# Altium schematic symbol library kmilo17pet-NSC_Switcher.SchLib: 2226 symbols (part 42 of 59)
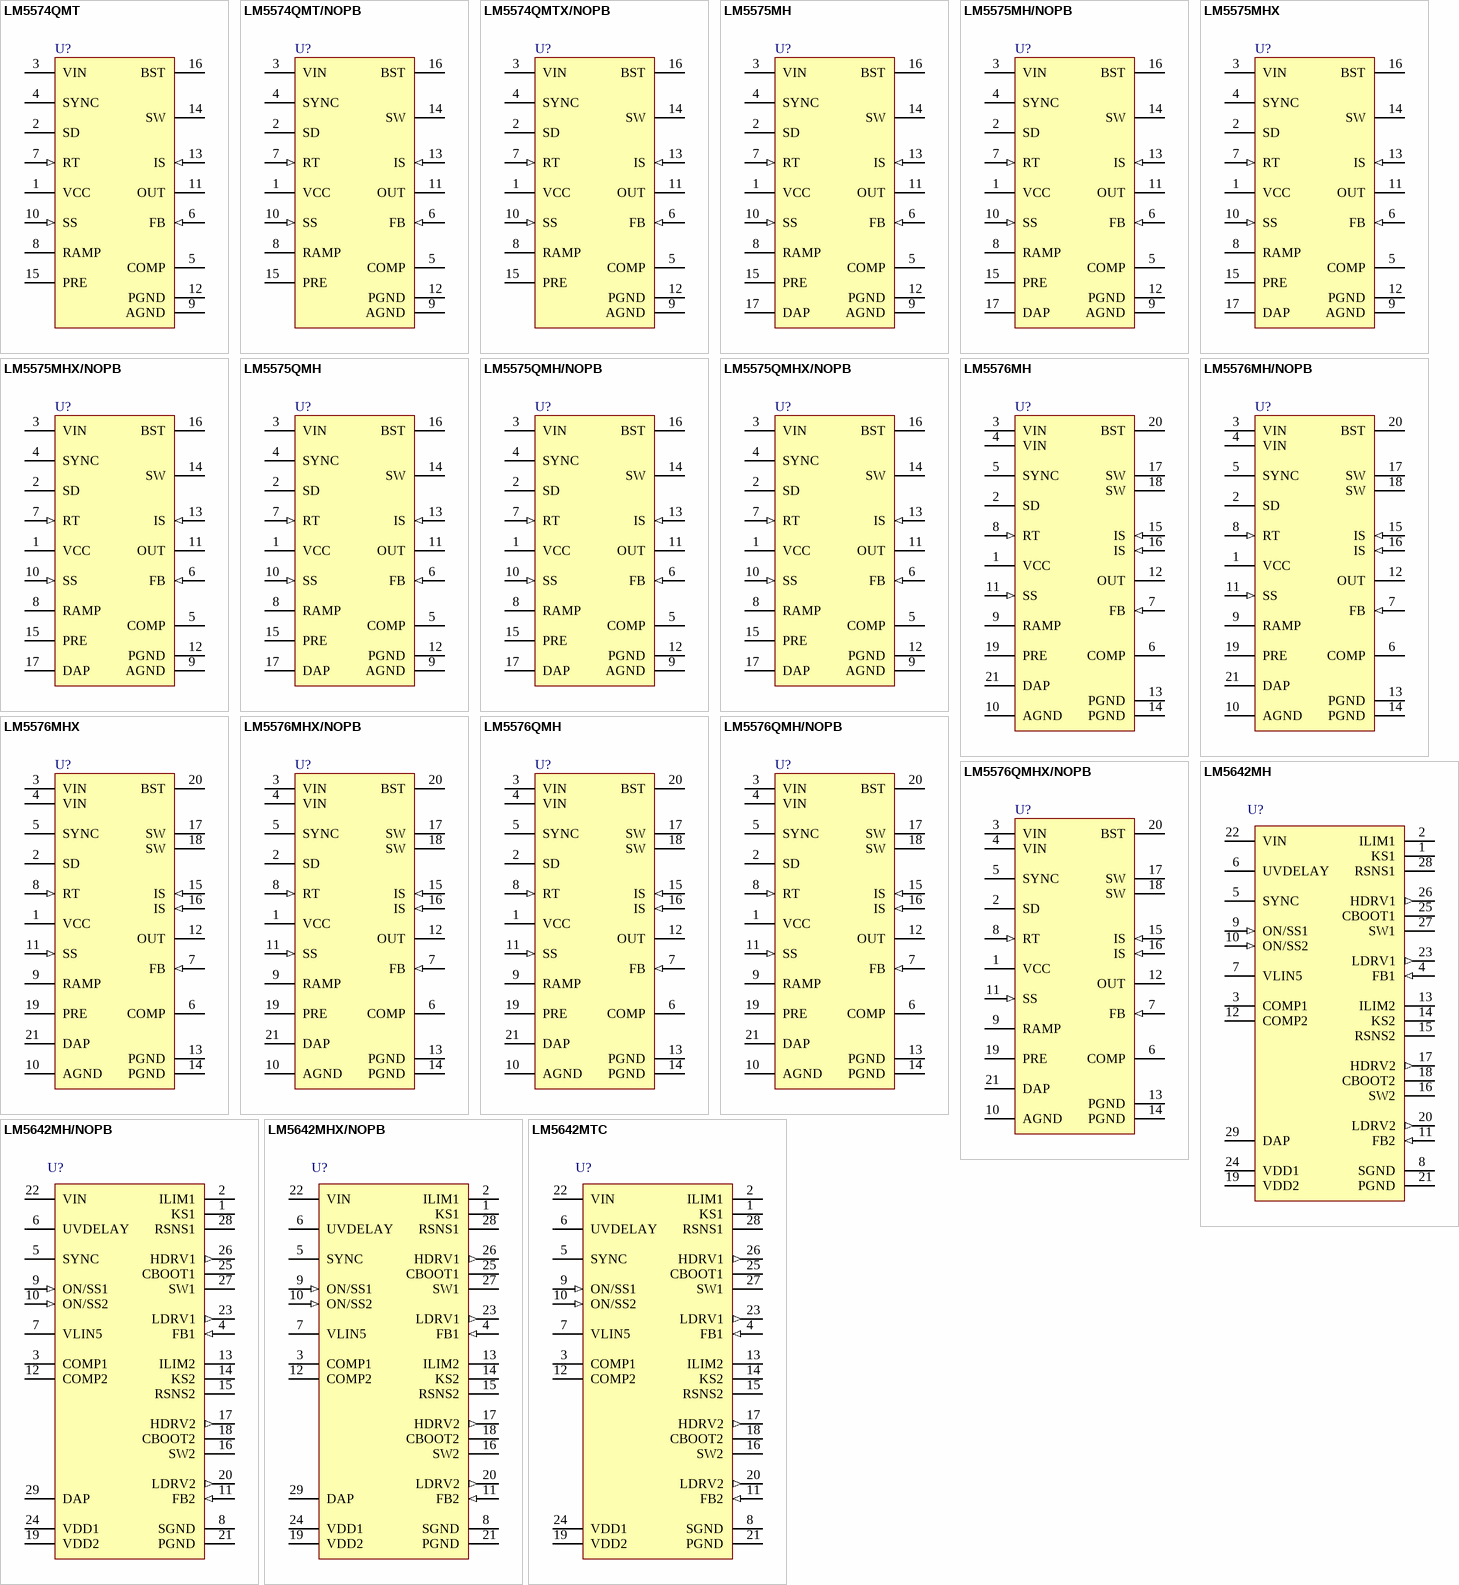
[diagram p110: symbols LM5574QMT to LM5642MTC]

## LM5576MH/NOPB
designator U?
SIMPLE SWITCHER® 75V, 3A Step-Down Switching Regulator, 20-pin TSSOP-EP, Pb-Free; PartNumber: LM5576MH/NOPB; Manufacturer: National Semiconductor; PackageTopMarking: NSUZXYTT*LM5576*MH; PowerWise: Y; DatasheetVersion: Mar-2007; PackageVersion: revC, Jul-2006; PackageReference: MXA20A; PackageDescription: Molded TSSOP, Jedec, 6.5 x 4.4 x 0.9mm Body, 20 Lead, 0.65mm Pitch, Exposed Pad; RoHS: Y; PinCount: 20; CompType: Switcher; High-Reliability: Y; Code_JEDEC: MO-153-ACT; ComponentLink1Description: Manufacturer URL; ComponentLink1URL: http://www.national.com/; ComponentLink2Description: LM5576 Datasheet; ComponentLink2URL: http://www.national.com/ds/LM/LM5576.pdf; ComponentLink3Description: LM5576 Web Page; ComponentLink3URL: http://www.national.com/pf/LM/LM5576.html; ComponentLink4Description: MXA20A Package Page; ComponentLink4URL: http://www.national.com/packaging/folders/mxa20a.html
footprint MXA20A_N (TSOP, 20-Leads, Body 6.5x4.4mm, Pitch 0.65mm, Thermal Pad, IPC Medium Density)
footprint MXA20A_L (TSOP, 20-Leads, Body 6.5x4.4mm, Pitch 0.65mm, Thermal Pad, IPC High Density)
footprint MXA20A_M (TSOP, 20-Leads, Body 6.5x4.4mm, Pitch 0.65mm, Thermal Pad, IPC Low Density)
pins: 1 VCC (power), 2 SD, 3 VIN (power), 4 VIN (power), 5 SYNC, 6 COMP, 7 FB (in), 8 RT (in), 9 RAMP, 10 AGND (power), 11 SS (in), 12 OUT (power), 13 PGND (power), 14 PGND (power), 15 IS (in), 16 IS (in), 17 SW (power), 18 SW (power), 19 PRE (oc), 20 BST, 21 DAP (power)

## LM5576MHX
designator U?
SIMPLE SWITCHER® 75V, 3A Step-Down Switching Regulator, 20-pin TSSOP-EP; PartNumber: LM5576MHX; Manufacturer: National Semiconductor; PackageTopMarking: NSUZXYTT*LM5576*MH; PowerWise: Y; DatasheetVersion: Mar-2007; PackageVersion: revC, Jul-2006; PackageReference: MXA20A; PackageDescription: Molded TSSOP, Jedec, 6.5 x 4.4 x 0.9mm Body, 20 Lead, 0.65mm Pitch, Exposed Pad; RoHS: N; PinCount: 20; CompType: Switcher; High-Reliability: Y; Code_JEDEC: MO-153-ACT; ComponentLink1Description: Manufacturer URL; ComponentLink1URL: http://www.national.com/; ComponentLink2Description: LM5576 Datasheet; ComponentLink2URL: http://www.national.com/ds/LM/LM5576.pdf; ComponentLink3Description: LM5576 Web Page; ComponentLink3URL: http://www.national.com/pf/LM/LM5576.html; ComponentLink4Description: MXA20A Package Page; ComponentLink4URL: http://www.national.com/packaging/folders/mxa20a.html
footprint MXA20A_N (TSOP, 20-Leads, Body 6.5x4.4mm, Pitch 0.65mm, Thermal Pad, IPC Medium Density)
footprint MXA20A_L (TSOP, 20-Leads, Body 6.5x4.4mm, Pitch 0.65mm, Thermal Pad, IPC High Density)
footprint MXA20A_M (TSOP, 20-Leads, Body 6.5x4.4mm, Pitch 0.65mm, Thermal Pad, IPC Low Density)
pins: 1 VCC (power), 2 SD, 3 VIN (power), 4 VIN (power), 5 SYNC, 6 COMP, 7 FB (in), 8 RT (in), 9 RAMP, 10 AGND (power), 11 SS (in), 12 OUT (power), 13 PGND (power), 14 PGND (power), 15 IS (in), 16 IS (in), 17 SW (power), 18 SW (power), 19 PRE (oc), 20 BST, 21 DAP (power)

## LM5576MHX/NOPB
designator U?
SIMPLE SWITCHER® 75V, 3A Step-Down Switching Regulator, 20-pin TSSOP-EP, Pb-Free; PartNumber: LM5576MHX/NOPB; Manufacturer: National Semiconductor; PackageTopMarking: NSUZXYTT*LM5576*MH; PowerWise: Y; DatasheetVersion: Mar-2007; PackageVersion: revC, Jul-2006; PackageReference: MXA20A; PackageDescription: Molded TSSOP, Jedec, 6.5 x 4.4 x 0.9mm Body, 20 Lead, 0.65mm Pitch, Exposed Pad; RoHS: Y; PinCount: 20; CompType: Switcher; High-Reliability: Y; Code_JEDEC: MO-153-ACT; ComponentLink1Description: Manufacturer URL; ComponentLink1URL: http://www.national.com/; ComponentLink2Description: LM5576 Datasheet; ComponentLink2URL: http://www.national.com/ds/LM/LM5576.pdf; ComponentLink3Description: LM5576 Web Page; ComponentLink3URL: http://www.national.com/pf/LM/LM5576.html; ComponentLink4Description: MXA20A Package Page; ComponentLink4URL: http://www.national.com/packaging/folders/mxa20a.html
footprint MXA20A_N (TSOP, 20-Leads, Body 6.5x4.4mm, Pitch 0.65mm, Thermal Pad, IPC Medium Density)
footprint MXA20A_L (TSOP, 20-Leads, Body 6.5x4.4mm, Pitch 0.65mm, Thermal Pad, IPC High Density)
footprint MXA20A_M (TSOP, 20-Leads, Body 6.5x4.4mm, Pitch 0.65mm, Thermal Pad, IPC Low Density)
pins: 1 VCC (power), 2 SD, 3 VIN (power), 4 VIN (power), 5 SYNC, 6 COMP, 7 FB (in), 8 RT (in), 9 RAMP, 10 AGND (power), 11 SS (in), 12 OUT (power), 13 PGND (power), 14 PGND (power), 15 IS (in), 16 IS (in), 17 SW (power), 18 SW (power), 19 PRE (oc), 20 BST, 21 DAP (power)

## LM5576QMH
designator U?
SIMPLE SWITCHER® 75V, 3A Step-Down Switching Regulator, 20-pin TSSOP-EP; PartNumber: LM5576QMH; Manufacturer: National Semiconductor; PackageTopMarking: NSUZXYTT*LM5576*QMH; PowerWise: N; High-Reliability: Y; DatasheetVersion: Mar-2009; PackageVersion: revC, Jul-2006; PackageReference: MXA20A; PackageDescription: Molded TSSOP, Jedec, 6.5 x 4.4 x 0.9mm Body, 20 Lead, 0.65mm Pitch, Exposed Pad; RoHS: Y; PinCount: 20; CompType: Switcher; Code_JEDEC: MO-153-ACT; ComponentLink1Description: Manufacturer URL; ComponentLink1URL: http://www.national.com/; ComponentLink2Description: LM5576 Datasheet; ComponentLink2URL: http://www.national.com/ds/LM/LM5576.pdf; ComponentLink3Description: LM5576 Web Page; ComponentLink3URL: http://www.national.com/pf/LM/LM5576.html; ComponentLink4Description: MXA20A Package Page; ComponentLink4URL: http://www.national.com/packaging/folders/mxa20a.html
footprint MXA20A_N (TSOP, 20-Leads, Body 6.5x4.4mm, Pitch 0.65mm, Thermal Pad, IPC Medium Density)
footprint MXA20A_L (TSOP, 20-Leads, Body 6.5x4.4mm, Pitch 0.65mm, Thermal Pad, IPC High Density)
footprint MXA20A_M (TSOP, 20-Leads, Body 6.5x4.4mm, Pitch 0.65mm, Thermal Pad, IPC Low Density)
pins: 1 VCC (power), 2 SD, 3 VIN (power), 4 VIN (power), 5 SYNC, 6 COMP, 7 FB (in), 8 RT (in), 9 RAMP, 10 AGND (power), 11 SS (in), 12 OUT (power), 13 PGND (power), 14 PGND (power), 15 IS (in), 16 IS (in), 17 SW (power), 18 SW (power), 19 PRE (oc), 20 BST, 21 DAP (power)

## LM5576QMH/NOPB
designator U?
SIMPLE SWITCHER® 75V, 3A Step-Down Switching Regulator, 20-pin TSSOP-EP, Pb-Free; PartNumber: LM5576QMH/NOPB; Manufacturer: National Semiconductor; PackageTopMarking: NSUZXYTT*LM5576*QMH; PowerWise: N; High-Reliability: Y; DatasheetVersion: Mar-2009; PackageVersion: revC, Jul-2006; PackageReference: MXA20A; PackageDescription: Molded TSSOP, Jedec, 6.5 x 4.4 x 0.9mm Body, 20 Lead, 0.65mm Pitch, Exposed Pad; RoHS: Y; PinCount: 20; CompType: Switcher; Code_JEDEC: MO-153-ACT; ComponentLink1Description: Manufacturer URL; ComponentLink1URL: http://www.national.com/; ComponentLink2Description: LM5576 Datasheet; ComponentLink2URL: http://www.national.com/ds/LM/LM5576.pdf; ComponentLink3Description: LM5576 Web Page; ComponentLink3URL: http://www.national.com/pf/LM/LM5576.html; ComponentLink4Description: MXA20A Package Page; ComponentLink4URL: http://www.national.com/packaging/folders/mxa20a.html
footprint MXA20A_N (TSOP, 20-Leads, Body 6.5x4.4mm, Pitch 0.65mm, Thermal Pad, IPC Medium Density)
footprint MXA20A_L (TSOP, 20-Leads, Body 6.5x4.4mm, Pitch 0.65mm, Thermal Pad, IPC High Density)
footprint MXA20A_M (TSOP, 20-Leads, Body 6.5x4.4mm, Pitch 0.65mm, Thermal Pad, IPC Low Density)
pins: 1 VCC (power), 2 SD, 3 VIN (power), 4 VIN (power), 5 SYNC, 6 COMP, 7 FB (in), 8 RT (in), 9 RAMP, 10 AGND (power), 11 SS (in), 12 OUT (power), 13 PGND (power), 14 PGND (power), 15 IS (in), 16 IS (in), 17 SW (power), 18 SW (power), 19 PRE (oc), 20 BST, 21 DAP (power)

## LM5576QMHX/NOPB
designator U?
SIMPLE SWITCHER® 75V, 3A Step-Down Switching Regulator, 20-pin TSSOP-EP, Pb-Free; PartNumber: LM5576QMHX/NOPB; Manufacturer: National Semiconductor; PackageTopMarking: NSUZXYTT*LM5576*QMH; PowerWise: N; High-Reliability: Y; DatasheetVersion: Mar-2009; PackageVersion: revC, Jul-2006; PackageReference: MXA20A; PackageDescription: Molded TSSOP, Jedec, 6.5 x 4.4 x 0.9mm Body, 20 Lead, 0.65mm Pitch, Exposed Pad; RoHS: Y; PinCount: 20; CompType: Switcher; Code_JEDEC: MO-153-ACT; ComponentLink1Description: Manufacturer URL; ComponentLink1URL: http://www.national.com/; ComponentLink2Description: LM5576 Datasheet; ComponentLink2URL: http://www.national.com/ds/LM/LM5576.pdf; ComponentLink3Description: LM5576 Web Page; ComponentLink3URL: http://www.national.com/pf/LM/LM5576.html; ComponentLink4Description: MXA20A Package Page; ComponentLink4URL: http://www.national.com/packaging/folders/mxa20a.html
footprint MXA20A_N (TSOP, 20-Leads, Body 6.5x4.4mm, Pitch 0.65mm, Thermal Pad, IPC Medium Density)
footprint MXA20A_L (TSOP, 20-Leads, Body 6.5x4.4mm, Pitch 0.65mm, Thermal Pad, IPC High Density)
footprint MXA20A_M (TSOP, 20-Leads, Body 6.5x4.4mm, Pitch 0.65mm, Thermal Pad, IPC Low Density)
pins: 1 VCC (power), 2 SD, 3 VIN (power), 4 VIN (power), 5 SYNC, 6 COMP, 7 FB (in), 8 RT (in), 9 RAMP, 10 AGND (power), 11 SS (in), 12 OUT (power), 13 PGND (power), 14 PGND (power), 15 IS (in), 16 IS (in), 17 SW (power), 18 SW (power), 19 PRE (oc), 20 BST, 21 DAP (power)

## LM5642MH
designator U?
High Voltage, Dual Synchronous Buck Converter with Oscillator Synchronization, 28-pin TSSOP-EP; PartNumber: LM5642MH; Manufacturer: National Semiconductor; PackageTopMarking: NSUZXYTT*LM5642*MH; PowerWise: N; CompType: Switcher; High-Reliability: Y; DatasheetVersion: Jun-2007; PackageVersion: revD, Oct-2003; PackageReference: MXA28A; PackageDescription: Molded TSSOP, Jedec, 9.7 x 4.4 x 0.9mm Body, 28 Lead, 0.65mm Pitch, Exposed Pad; RoHS: Y; PinCount: 28; Code_JEDEC: MO-153-AET; ComponentLink1Description: Manufacturer URL; ComponentLink1URL: http://www.national.com/; ComponentLink2Description: LM5642 Datasheet; ComponentLink2URL: http://www.national.com/ds/LM/LM5642.pdf; ComponentLink3Description: LM5642 Web Page; ComponentLink3URL: http://www.national.com/pf/LM/LM5642.html; ComponentLink4Description: MXA28A Package Page; ComponentLink4URL: http://www.national.com/packaging/folders/mxa28a.html
footprint MXA28A_N (TSOP, 28-Leads, Body 9.7x4.4mm, Pitch 0.65mm, Thermal Pad, IPC Medium Density)
footprint MXA28A_L (TSOP, 28-Leads, Body 9.7x4.4mm, Pitch 0.65mm, Thermal Pad, IPC High Density)
footprint MXA28A_M (TSOP, 28-Leads, Body 9.7x4.4mm, Pitch 0.65mm, Thermal Pad, IPC Low Density)
pins: 1 KS1, 2 ILIM1, 3 COMP1, 4 FB1 (in), 5 SYNC, 6 UVDELAY, 7 VLIN5 (power), 8 SGND (power), 9 ON/SS1 (in), 10 ON/SS2 (in), 11 FB2 (in), 12 COMP2, 13 ILIM2, 14 KS2, 15 RSNS2, 16 SW2 (power), 17 HDRV2 (out), 18 CBOOT2, 19 VDD2 (power), 20 LDRV2 (out), 21 PGND (power), 22 VIN (power), 23 LDRV1 (out), 24 VDD1 (power), 25 CBOOT1, 26 HDRV1 (out), 27 SW1 (power), 28 RSNS1, 29 DAP (power)

## LM5642MH/NOPB
designator U?
High Voltage, Dual Synchronous Buck Converter with Oscillator Synchronization, 28-pin TSSOP-EP, Pb-Free; PartNumber: LM5642MH/NOPB; Manufacturer: National Semiconductor; PackageTopMarking: NSUZXYTTE#*LM5642*MH; PowerWise: N; CompType: Switcher; High-Reliability: Y; DatasheetVersion: Jun-2007; PackageVersion: revD, Oct-2003; PackageReference: MXA28A; PackageDescription: Molded TSSOP, Jedec, 9.7 x 4.4 x 0.9mm Body, 28 Lead, 0.65mm Pitch, Exposed Pad; RoHS: Y; PinCount: 28; Code_JEDEC: MO-153-AET; ComponentLink1Description: Manufacturer URL; ComponentLink1URL: http://www.national.com/; ComponentLink2Description: LM5642 Datasheet; ComponentLink2URL: http://www.national.com/ds/LM/LM5642.pdf; ComponentLink3Description: LM5642 Web Page; ComponentLink3URL: http://www.national.com/pf/LM/LM5642.html; ComponentLink4Description: MXA28A Package Page; ComponentLink4URL: http://www.national.com/packaging/folders/mxa28a.html
footprint MXA28A_N (TSOP, 28-Leads, Body 9.7x4.4mm, Pitch 0.65mm, Thermal Pad, IPC Medium Density)
footprint MXA28A_L (TSOP, 28-Leads, Body 9.7x4.4mm, Pitch 0.65mm, Thermal Pad, IPC High Density)
footprint MXA28A_M (TSOP, 28-Leads, Body 9.7x4.4mm, Pitch 0.65mm, Thermal Pad, IPC Low Density)
pins: 1 KS1, 2 ILIM1, 3 COMP1, 4 FB1 (in), 5 SYNC, 6 UVDELAY, 7 VLIN5 (power), 8 SGND (power), 9 ON/SS1 (in), 10 ON/SS2 (in), 11 FB2 (in), 12 COMP2, 13 ILIM2, 14 KS2, 15 RSNS2, 16 SW2 (power), 17 HDRV2 (out), 18 CBOOT2, 19 VDD2 (power), 20 LDRV2 (out), 21 PGND (power), 22 VIN (power), 23 LDRV1 (out), 24 VDD1 (power), 25 CBOOT1, 26 HDRV1 (out), 27 SW1 (power), 28 RSNS1, 29 DAP (power)

## LM5642MHX/NOPB
designator U?
High Voltage, Dual Synchronous Buck Converter with Oscillator Synchronization, 28-pin TSSOP-EP, Pb-Free; PartNumber: LM5642MHX/NOPB; Manufacturer: National Semiconductor; PackageTopMarking: NSUZXYTTE#*LM5642*MH; PowerWise: N; CompType: Switcher; High-Reliability: Y; DatasheetVersion: Jun-2007; PackageVersion: revD, Oct-2003; PackageReference: MXA28A; PackageDescription: Molded TSSOP, Jedec, 9.7 x 4.4 x 0.9mm Body, 28 Lead, 0.65mm Pitch, Exposed Pad; RoHS: Y; PinCount: 28; Code_JEDEC: MO-153-AET; ComponentLink1Description: Manufacturer URL; ComponentLink1URL: http://www.national.com/; ComponentLink2Description: LM5642 Datasheet; ComponentLink2URL: http://www.national.com/ds/LM/LM5642.pdf; ComponentLink3Description: LM5642 Web Page; ComponentLink3URL: http://www.national.com/pf/LM/LM5642.html; ComponentLink4Description: MXA28A Package Page; ComponentLink4URL: http://www.national.com/packaging/folders/mxa28a.html
footprint MXA28A_N (TSOP, 28-Leads, Body 9.7x4.4mm, Pitch 0.65mm, Thermal Pad, IPC Medium Density)
footprint MXA28A_L (TSOP, 28-Leads, Body 9.7x4.4mm, Pitch 0.65mm, Thermal Pad, IPC High Density)
footprint MXA28A_M (TSOP, 28-Leads, Body 9.7x4.4mm, Pitch 0.65mm, Thermal Pad, IPC Low Density)
pins: 1 KS1, 2 ILIM1, 3 COMP1, 4 FB1 (in), 5 SYNC, 6 UVDELAY, 7 VLIN5 (power), 8 SGND (power), 9 ON/SS1 (in), 10 ON/SS2 (in), 11 FB2 (in), 12 COMP2, 13 ILIM2, 14 KS2, 15 RSNS2, 16 SW2 (power), 17 HDRV2 (out), 18 CBOOT2, 19 VDD2 (power), 20 LDRV2 (out), 21 PGND (power), 22 VIN (power), 23 LDRV1 (out), 24 VDD1 (power), 25 CBOOT1, 26 HDRV1 (out), 27 SW1 (power), 28 RSNS1, 29 DAP (power)

## LM5642MTC
designator U?
High Voltage, Dual Synchronous Buck Converter with Oscillator Synchronization, 28-pin TSSOP; PartNumber: LM5642MTC; Manufacturer: National Semiconductor; PackageTopMarking: NSUZXYTTE#*LM5642*MTC; PowerWise: Y; CompType: Switcher; DatasheetVersion: Jun-2007; PackageVersion: revD, Jan-2005; PackageReference: MTC28; PackageDescription: Molded TSSOP, Jedec, 9.7 x 4.4 x 0.9mm Body, 28 Lead, 0.65mm Pitch; RoHS: N; PinCount: 28; High-Reliability: Y; Code_JEDEC: MO-153-AE; ComponentLink1Description: Manufacturer URL; ComponentLink1URL: http://www.national.com/; ComponentLink2Description: LM5642 Datasheet; ComponentLink2URL: http://www.national.com/ds/LM/LM5642.pdf; ComponentLink3Description: LM5642 Web Page; ComponentLink3URL: http://www.national.com/pf/LM/LM5642.html; ComponentLink4Description: MTC28 Package Page; ComponentLink4URL: http://www.national.com/packaging/folders/mtc28.html
footprint MTC28_N (TSOP, 28-Leads, Body 9.7x4.4mm, Pitch 0.65mm, IPC Medium Density)
footprint MTC28_L (TSOP, 28-Leads, Body 9.7x4.4mm, Pitch 0.65mm, IPC High Density)
footprint MTC28_M (TSOP, 28-Leads, Body 9.7x4.4mm, Pitch 0.65mm, IPC Low Density)
pins: 1 KS1, 2 ILIM1, 3 COMP1, 4 FB1 (in), 5 SYNC, 6 UVDELAY, 7 VLIN5 (power), 8 SGND (power), 9 ON/SS1 (in), 10 ON/SS2 (in), 11 FB2 (in), 12 COMP2, 13 ILIM2, 14 KS2, 15 RSNS2, 16 SW2 (power), 17 HDRV2 (out), 18 CBOOT2, 19 VDD2 (power), 20 LDRV2 (out), 21 PGND (power), 22 VIN (power), 23 LDRV1 (out), 24 VDD1 (power), 25 CBOOT1, 26 HDRV1 (out), 27 SW1 (power), 28 RSNS1

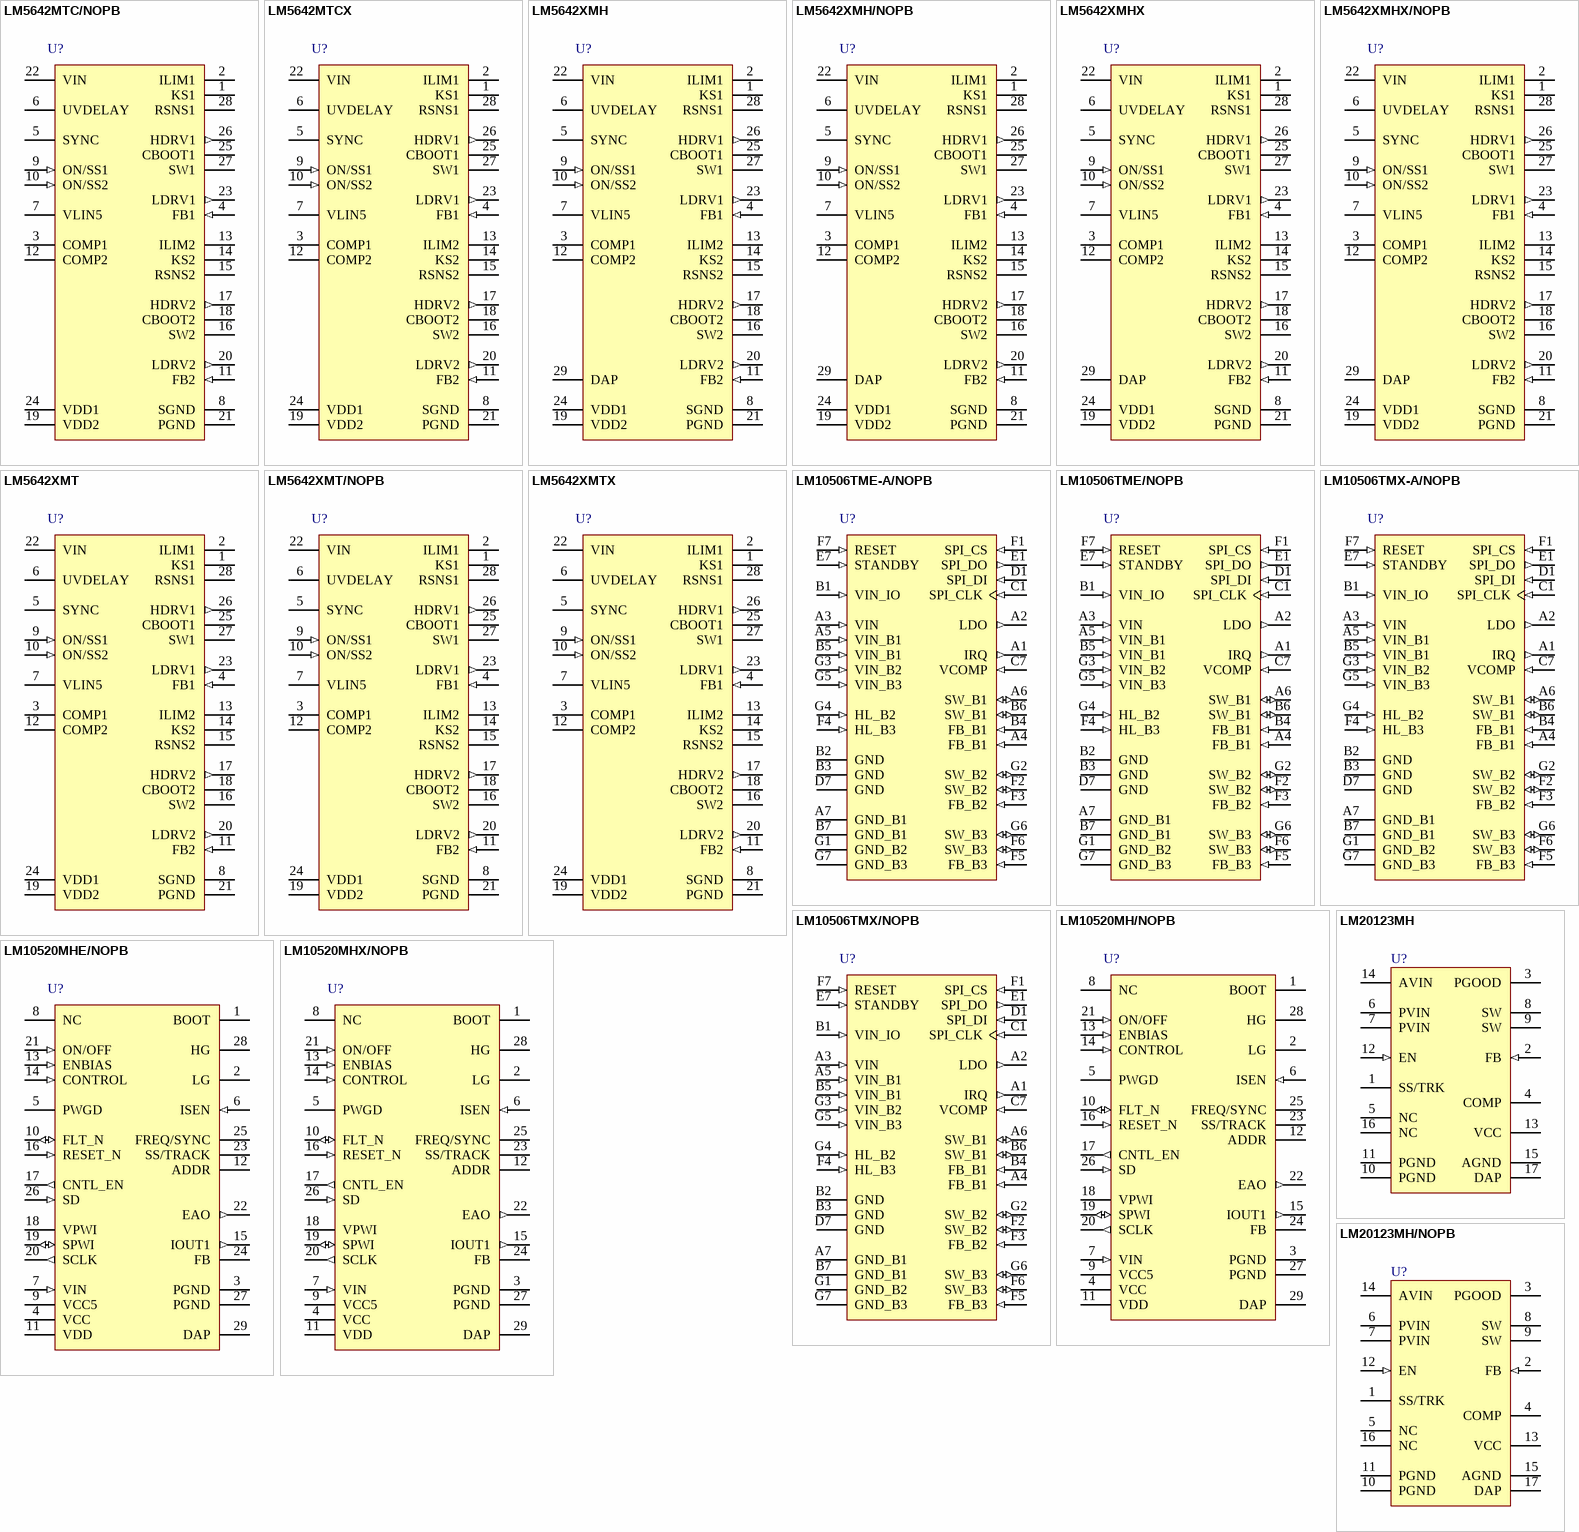
[diagram p47: symbols LM5642MTC/NOPB to LM20123MH/NOPB]

## LM5642MTC/NOPB
designator U?
High Voltage, Dual Synchronous Buck Converter with Oscillator Synchronization, 28-pin TSSOP, Pb-Free; PartNumber: LM5642MTC/NOPB; Manufacturer: National Semiconductor; PackageTopMarking: NSUZXYTTE#*LM5642*MTC; PowerWise: Y; CompType: Switcher; DatasheetVersion: Jun-2007; PackageVersion: revD, Jan-2005; PackageReference: MTC28; PackageDescription: Molded TSSOP, Jedec, 9.7 x 4.4 x 0.9mm Body, 28 Lead, 0.65mm Pitch; RoHS: Y; PinCount: 28; High-Reliability: Y; Code_JEDEC: MO-153-AE; ComponentLink1Description: Manufacturer URL; ComponentLink1URL: http://www.national.com/; ComponentLink2Description: LM5642 Datasheet; ComponentLink2URL: http://www.national.com/ds/LM/LM5642.pdf; ComponentLink3Description: LM5642 Web Page; ComponentLink3URL: http://www.national.com/pf/LM/LM5642.html; ComponentLink4Description: MTC28 Package Page; ComponentLink4URL: http://www.national.com/packaging/folders/mtc28.html
footprint MTC28_N (TSOP, 28-Leads, Body 9.7x4.4mm, Pitch 0.65mm, IPC Medium Density)
footprint MTC28_L (TSOP, 28-Leads, Body 9.7x4.4mm, Pitch 0.65mm, IPC High Density)
footprint MTC28_M (TSOP, 28-Leads, Body 9.7x4.4mm, Pitch 0.65mm, IPC Low Density)
pins: 1 KS1, 2 ILIM1, 3 COMP1, 4 FB1 (in), 5 SYNC, 6 UVDELAY, 7 VLIN5 (power), 8 SGND (power), 9 ON/SS1 (in), 10 ON/SS2 (in), 11 FB2 (in), 12 COMP2, 13 ILIM2, 14 KS2, 15 RSNS2, 16 SW2 (power), 17 HDRV2 (out), 18 CBOOT2, 19 VDD2 (power), 20 LDRV2 (out), 21 PGND (power), 22 VIN (power), 23 LDRV1 (out), 24 VDD1 (power), 25 CBOOT1, 26 HDRV1 (out), 27 SW1 (power), 28 RSNS1

## LM5642MTCX
designator U?
High Voltage, Dual Synchronous Buck Converter with Oscillator Synchronization, 28-pin TSSOP; PartNumber: LM5642MTCX; Manufacturer: National Semiconductor; PackageTopMarking: NSUZXYTTE#*LM5642*MTC; PowerWise: Y; CompType: Switcher; DatasheetVersion: Jun-2007; PackageVersion: revD, Jan-2005; PackageReference: MTC28; PackageDescription: Molded TSSOP, Jedec, 9.7 x 4.4 x 0.9mm Body, 28 Lead, 0.65mm Pitch; RoHS: N; PinCount: 28; High-Reliability: Y; Code_JEDEC: MO-153-AE; ComponentLink1Description: Manufacturer URL; ComponentLink1URL: http://www.national.com/; ComponentLink2Description: LM5642 Datasheet; ComponentLink2URL: http://www.national.com/ds/LM/LM5642.pdf; ComponentLink3Description: LM5642 Web Page; ComponentLink3URL: http://www.national.com/pf/LM/LM5642.html; ComponentLink4Description: MTC28 Package Page; ComponentLink4URL: http://www.national.com/packaging/folders/mtc28.html
footprint MTC28_N (TSOP, 28-Leads, Body 9.7x4.4mm, Pitch 0.65mm, IPC Medium Density)
footprint MTC28_L (TSOP, 28-Leads, Body 9.7x4.4mm, Pitch 0.65mm, IPC High Density)
footprint MTC28_M (TSOP, 28-Leads, Body 9.7x4.4mm, Pitch 0.65mm, IPC Low Density)
pins: 1 KS1, 2 ILIM1, 3 COMP1, 4 FB1 (in), 5 SYNC, 6 UVDELAY, 7 VLIN5 (power), 8 SGND (power), 9 ON/SS1 (in), 10 ON/SS2 (in), 11 FB2 (in), 12 COMP2, 13 ILIM2, 14 KS2, 15 RSNS2, 16 SW2 (power), 17 HDRV2 (out), 18 CBOOT2, 19 VDD2 (power), 20 LDRV2 (out), 21 PGND (power), 22 VIN (power), 23 LDRV1 (out), 24 VDD1 (power), 25 CBOOT1, 26 HDRV1 (out), 27 SW1 (power), 28 RSNS1

## LM5642XMH
designator U?
High Voltage, Dual Synchronous Buck Converter with Oscillator Synchronization, 28-pin TSSOP-EP; PartNumber: LM5642XMH; Manufacturer: National Semiconductor; PackageTopMarking: NSUZXYTTE#*LM5642*XMH; PowerWise: Y; CompType: Switcher; DatasheetVersion: Jun-2007; PackageVersion: revD, Oct-2003; PackageReference: MXA28A; PackageDescription: Molded TSSOP, Jedec, 9.7 x 4.4 x 0.9mm Body, 28 Lead, 0.65mm Pitch, Exposed Pad; RoHS: N; PinCount: 28; High-Reliability: Y; Code_JEDEC: MO-153-AET; ComponentLink1Description: Manufacturer URL; ComponentLink1URL: http://www.national.com/; ComponentLink2Description: LM5642X Datasheet; ComponentLink2URL: http://www.national.com/ds/LM/LM5642X.pdf; ComponentLink3Description: LM5642X Web Page; ComponentLink3URL: http://www.national.com/pf/LM/LM5642X.html; ComponentLink4Description: MXA28A Package Page; ComponentLink4URL: http://www.national.com/packaging/folders/mxa28a.html
footprint MXA28A_N (TSOP, 28-Leads, Body 9.7x4.4mm, Pitch 0.65mm, Thermal Pad, IPC Medium Density)
footprint MXA28A_L (TSOP, 28-Leads, Body 9.7x4.4mm, Pitch 0.65mm, Thermal Pad, IPC High Density)
footprint MXA28A_M (TSOP, 28-Leads, Body 9.7x4.4mm, Pitch 0.65mm, Thermal Pad, IPC Low Density)
pins: 1 KS1, 2 ILIM1, 3 COMP1, 4 FB1 (in), 5 SYNC, 6 UVDELAY, 7 VLIN5 (power), 8 SGND (power), 9 ON/SS1 (in), 10 ON/SS2 (in), 11 FB2 (in), 12 COMP2, 13 ILIM2, 14 KS2, 15 RSNS2, 16 SW2 (power), 17 HDRV2 (out), 18 CBOOT2, 19 VDD2 (power), 20 LDRV2 (out), 21 PGND (power), 22 VIN (power), 23 LDRV1 (out), 24 VDD1 (power), 25 CBOOT1, 26 HDRV1 (out), 27 SW1 (power), 28 RSNS1, 29 DAP (power)

## LM5642XMH/NOPB
designator U?
High Voltage, Dual Synchronous Buck Converter with Oscillator Synchronization, 28-pin TSSOP-EP, Pb-Free; PartNumber: LM5642XMH/NOPB; Manufacturer: National Semiconductor; PackageTopMarking: NSUZXYTTE#*LM5642*XMH; PowerWise: Y; CompType: Switcher; DatasheetVersion: Jun-2007; PackageVersion: revD, Oct-2003; PackageReference: MXA28A; PackageDescription: Molded TSSOP, Jedec, 9.7 x 4.4 x 0.9mm Body, 28 Lead, 0.65mm Pitch, Exposed Pad; RoHS: Y; PinCount: 28; High-Reliability: Y; Code_JEDEC: MO-153-AET; ComponentLink1Description: Manufacturer URL; ComponentLink1URL: http://www.national.com/; ComponentLink2Description: LM5642X Datasheet; ComponentLink2URL: http://www.national.com/ds/LM/LM5642X.pdf; ComponentLink3Description: LM5642X Web Page; ComponentLink3URL: http://www.national.com/pf/LM/LM5642X.html; ComponentLink4Description: MXA28A Package Page; ComponentLink4URL: http://www.national.com/packaging/folders/mxa28a.html
footprint MXA28A_N (TSOP, 28-Leads, Body 9.7x4.4mm, Pitch 0.65mm, Thermal Pad, IPC Medium Density)
footprint MXA28A_L (TSOP, 28-Leads, Body 9.7x4.4mm, Pitch 0.65mm, Thermal Pad, IPC High Density)
footprint MXA28A_M (TSOP, 28-Leads, Body 9.7x4.4mm, Pitch 0.65mm, Thermal Pad, IPC Low Density)
pins: 1 KS1, 2 ILIM1, 3 COMP1, 4 FB1 (in), 5 SYNC, 6 UVDELAY, 7 VLIN5 (power), 8 SGND (power), 9 ON/SS1 (in), 10 ON/SS2 (in), 11 FB2 (in), 12 COMP2, 13 ILIM2, 14 KS2, 15 RSNS2, 16 SW2 (power), 17 HDRV2 (out), 18 CBOOT2, 19 VDD2 (power), 20 LDRV2 (out), 21 PGND (power), 22 VIN (power), 23 LDRV1 (out), 24 VDD1 (power), 25 CBOOT1, 26 HDRV1 (out), 27 SW1 (power), 28 RSNS1, 29 DAP (power)

## LM5642XMHX
designator U?
High Voltage, Dual Synchronous Buck Converter with Oscillator Synchronization, 28-pin TSSOP-EP; PartNumber: LM5642XMHX; Manufacturer: National Semiconductor; PackageTopMarking: NSUZXYTTE#*LM5642*XMH; PowerWise: Y; CompType: Switcher; DatasheetVersion: Jun-2007; PackageVersion: revD, Oct-2003; PackageReference: MXA28A; PackageDescription: Molded TSSOP, Jedec, 9.7 x 4.4 x 0.9mm Body, 28 Lead, 0.65mm Pitch, Exposed Pad; RoHS: N; PinCount: 28; High-Reliability: Y; Code_JEDEC: MO-153-AET; ComponentLink1Description: Manufacturer URL; ComponentLink1URL: http://www.national.com/; ComponentLink2Description: LM5642X Datasheet; ComponentLink2URL: http://www.national.com/ds/LM/LM5642X.pdf; ComponentLink3Description: LM5642X Web Page; ComponentLink3URL: http://www.national.com/pf/LM/LM5642X.html; ComponentLink4Description: MXA28A Package Page; ComponentLink4URL: http://www.national.com/packaging/folders/mxa28a.html
footprint MXA28A_N (TSOP, 28-Leads, Body 9.7x4.4mm, Pitch 0.65mm, Thermal Pad, IPC Medium Density)
footprint MXA28A_L (TSOP, 28-Leads, Body 9.7x4.4mm, Pitch 0.65mm, Thermal Pad, IPC High Density)
footprint MXA28A_M (TSOP, 28-Leads, Body 9.7x4.4mm, Pitch 0.65mm, Thermal Pad, IPC Low Density)
pins: 1 KS1, 2 ILIM1, 3 COMP1, 4 FB1 (in), 5 SYNC, 6 UVDELAY, 7 VLIN5 (power), 8 SGND (power), 9 ON/SS1 (in), 10 ON/SS2 (in), 11 FB2 (in), 12 COMP2, 13 ILIM2, 14 KS2, 15 RSNS2, 16 SW2 (power), 17 HDRV2 (out), 18 CBOOT2, 19 VDD2 (power), 20 LDRV2 (out), 21 PGND (power), 22 VIN (power), 23 LDRV1 (out), 24 VDD1 (power), 25 CBOOT1, 26 HDRV1 (out), 27 SW1 (power), 28 RSNS1, 29 DAP (power)

## LM5642XMHX/NOPB
designator U?
High Voltage, Dual Synchronous Buck Converter with Oscillator Synchronization, 28-pin TSSOP-EP, Pb-Free; PartNumber: LM5642XMHX/NOPB; Manufacturer: National Semiconductor; PackageTopMarking: NSUZXYTTE#*LM5642*XMH; PowerWise: Y; CompType: Switcher; DatasheetVersion: Jun-2007; PackageVersion: revD, Oct-2003; PackageReference: MXA28A; PackageDescription: Molded TSSOP, Jedec, 9.7 x 4.4 x 0.9mm Body, 28 Lead, 0.65mm Pitch, Exposed Pad; RoHS: Y; PinCount: 28; High-Reliability: Y; Code_JEDEC: MO-153-AET; ComponentLink1Description: Manufacturer URL; ComponentLink1URL: http://www.national.com/; ComponentLink2Description: LM5642X Datasheet; ComponentLink2URL: http://www.national.com/ds/LM/LM5642X.pdf; ComponentLink3Description: LM5642X Web Page; ComponentLink3URL: http://www.national.com/pf/LM/LM5642X.html; ComponentLink4Description: MXA28A Package Page; ComponentLink4URL: http://www.national.com/packaging/folders/mxa28a.html
footprint MXA28A_N (TSOP, 28-Leads, Body 9.7x4.4mm, Pitch 0.65mm, Thermal Pad, IPC Medium Density)
footprint MXA28A_L (TSOP, 28-Leads, Body 9.7x4.4mm, Pitch 0.65mm, Thermal Pad, IPC High Density)
footprint MXA28A_M (TSOP, 28-Leads, Body 9.7x4.4mm, Pitch 0.65mm, Thermal Pad, IPC Low Density)
pins: 1 KS1, 2 ILIM1, 3 COMP1, 4 FB1 (in), 5 SYNC, 6 UVDELAY, 7 VLIN5 (power), 8 SGND (power), 9 ON/SS1 (in), 10 ON/SS2 (in), 11 FB2 (in), 12 COMP2, 13 ILIM2, 14 KS2, 15 RSNS2, 16 SW2 (power), 17 HDRV2 (out), 18 CBOOT2, 19 VDD2 (power), 20 LDRV2 (out), 21 PGND (power), 22 VIN (power), 23 LDRV1 (out), 24 VDD1 (power), 25 CBOOT1, 26 HDRV1 (out), 27 SW1 (power), 28 RSNS1, 29 DAP (power)

## LM5642XMT
designator U?
High Voltage, Dual Synchronous Buck Converter with Oscillator Synchronization, 28-pin TSSOP; PartNumber: LM5642XMT; Manufacturer: National Semiconductor; PackageTopMarking: NSUZXYTTE#*LM5642*XMT; PowerWise: Y; CompType: Switcher; DatasheetVersion: Jun-2007; PackageVersion: revD, Jan-2005; PackageReference: MTC28; PackageDescription: Molded TSSOP, Jedec, 9.7 x 4.4 x 0.9mm Body, 28 Lead, 0.65mm Pitch; RoHS: N; PinCount: 28; High-Reliability: Y; Code_JEDEC: MO-153-AE; ComponentLink1Description: Manufacturer URL; ComponentLink1URL: http://www.national.com/; ComponentLink2Description: LM5642X Datasheet; ComponentLink2URL: http://www.national.com/ds/LM/LM5642X.pdf; ComponentLink3Description: LM5642X Web Page; ComponentLink3URL: http://www.national.com/pf/LM/LM5642X.html; ComponentLink4Description: MTC28 Package Page; ComponentLink4URL: http://www.national.com/packaging/folders/mtc28.html
footprint MTC28_N (TSOP, 28-Leads, Body 9.7x4.4mm, Pitch 0.65mm, IPC Medium Density)
footprint MTC28_L (TSOP, 28-Leads, Body 9.7x4.4mm, Pitch 0.65mm, IPC High Density)
footprint MTC28_M (TSOP, 28-Leads, Body 9.7x4.4mm, Pitch 0.65mm, IPC Low Density)
pins: 1 KS1, 2 ILIM1, 3 COMP1, 4 FB1 (in), 5 SYNC, 6 UVDELAY, 7 VLIN5 (power), 8 SGND (power), 9 ON/SS1 (in), 10 ON/SS2 (in), 11 FB2 (in), 12 COMP2, 13 ILIM2, 14 KS2, 15 RSNS2, 16 SW2 (power), 17 HDRV2 (out), 18 CBOOT2, 19 VDD2 (power), 20 LDRV2 (out), 21 PGND (power), 22 VIN (power), 23 LDRV1 (out), 24 VDD1 (power), 25 CBOOT1, 26 HDRV1 (out), 27 SW1 (power), 28 RSNS1

## LM5642XMT/NOPB
designator U?
High Voltage, Dual Synchronous Buck Converter with Oscillator Synchronization, 28-pin TSSOP, Pb-Free; PartNumber: LM5642XMT/NOPB; Manufacturer: National Semiconductor; PackageTopMarking: NSUZXYTTE#*LM5642*XMT; PowerWise: Y; CompType: Switcher; DatasheetVersion: Jun-2007; PackageVersion: revD, Jan-2005; PackageReference: MTC28; PackageDescription: Molded TSSOP, Jedec, 9.7 x 4.4 x 0.9mm Body, 28 Lead, 0.65mm Pitch; RoHS: Y; PinCount: 28; High-Reliability: Y; Code_JEDEC: MO-153-AE; ComponentLink1Description: Manufacturer URL; ComponentLink1URL: http://www.national.com/; ComponentLink2Description: LM5642X Datasheet; ComponentLink2URL: http://www.national.com/ds/LM/LM5642X.pdf; ComponentLink3Description: LM5642X Web Page; ComponentLink3URL: http://www.national.com/pf/LM/LM5642X.html; ComponentLink4Description: MTC28 Package Page; ComponentLink4URL: http://www.national.com/packaging/folders/mtc28.html
footprint MTC28_N (TSOP, 28-Leads, Body 9.7x4.4mm, Pitch 0.65mm, IPC Medium Density)
footprint MTC28_L (TSOP, 28-Leads, Body 9.7x4.4mm, Pitch 0.65mm, IPC High Density)
footprint MTC28_M (TSOP, 28-Leads, Body 9.7x4.4mm, Pitch 0.65mm, IPC Low Density)
pins: 1 KS1, 2 ILIM1, 3 COMP1, 4 FB1 (in), 5 SYNC, 6 UVDELAY, 7 VLIN5 (power), 8 SGND (power), 9 ON/SS1 (in), 10 ON/SS2 (in), 11 FB2 (in), 12 COMP2, 13 ILIM2, 14 KS2, 15 RSNS2, 16 SW2 (power), 17 HDRV2 (out), 18 CBOOT2, 19 VDD2 (power), 20 LDRV2 (out), 21 PGND (power), 22 VIN (power), 23 LDRV1 (out), 24 VDD1 (power), 25 CBOOT1, 26 HDRV1 (out), 27 SW1 (power), 28 RSNS1

## LM5642XMTX
designator U?
High Voltage, Dual Synchronous Buck Converter with Oscillator Synchronization, 28-pin TSSOP; PartNumber: LM5642XMTX; Manufacturer: National Semiconductor; PackageTopMarking: NSUZXYTTE#*LM5642*XMT; PowerWise: Y; CompType: Switcher; DatasheetVersion: Jun-2007; PackageVersion: revD, Jan-2005; PackageReference: MTC28; PackageDescription: Molded TSSOP, Jedec, 9.7 x 4.4 x 0.9mm Body, 28 Lead, 0.65mm Pitch; RoHS: N; PinCount: 28; High-Reliability: Y; Code_JEDEC: MO-153-AE; ComponentLink1Description: Manufacturer URL; ComponentLink1URL: http://www.national.com/; ComponentLink2Description: LM5642X Datasheet; ComponentLink2URL: http://www.national.com/ds/LM/LM5642X.pdf; ComponentLink3Description: LM5642X Web Page; ComponentLink3URL: http://www.national.com/pf/LM/LM5642X.html; ComponentLink4Description: MTC28 Package Page; ComponentLink4URL: http://www.national.com/packaging/folders/mtc28.html
footprint MTC28_N (TSOP, 28-Leads, Body 9.7x4.4mm, Pitch 0.65mm, IPC Medium Density)
footprint MTC28_L (TSOP, 28-Leads, Body 9.7x4.4mm, Pitch 0.65mm, IPC High Density)
footprint MTC28_M (TSOP, 28-Leads, Body 9.7x4.4mm, Pitch 0.65mm, IPC Low Density)
pins: 1 KS1, 2 ILIM1, 3 COMP1, 4 FB1 (in), 5 SYNC, 6 UVDELAY, 7 VLIN5 (power), 8 SGND (power), 9 ON/SS1 (in), 10 ON/SS2 (in), 11 FB2 (in), 12 COMP2, 13 ILIM2, 14 KS2, 15 RSNS2, 16 SW2 (power), 17 HDRV2 (out), 18 CBOOT2, 19 VDD2 (power), 20 LDRV2 (out), 21 PGND (power), 22 VIN (power), 23 LDRV1 (out), 24 VDD1 (power), 25 CBOOT1, 26 HDRV1 (out), 27 SW1 (power), 28 RSNS1

## LM10506TME-A/NOPB
designator U?
Triple Buck + LDO Power Management Unit, 34-pin Micro SMD, 250 Reel; PartNumber: LM10506TME-A/NOPB; Manufacturer: National Semiconductor; PackageTopMarking: XYTT*I V045; PowerWise: N; CompType: Switcher; High-Reliability: Y; DatasheetVersion: Sep-2011; PackageVersion: revB, Apr-2011; PackageReference: TME34AAA; PackageDescription: Thin Micro SMD, 34 Bump, 2.81 x 2.81 x 0.60 mm Body, 0.4mm Pitch; RoHS: Y; PinCount: 34; ComponentLink1Description: Manufacturer URL; ComponentLink1URL: http://www.national.com/; ComponentLink2Description: LM10506 Datasheet; ComponentLink2URL: http://www.national.com/ds/LM/LM10506.pdf; ComponentLink3Description: LM10506 Web Page; ComponentLink3URL: http://www.national.com/pf/LM/LM10506.html; ComponentLink4Description: TME34AAA Package Page; ComponentLink4URL: http://www.national.com/packaging/folders/tme34aaa.html
footprint TME34AAA (Micro SMD, 34-Leads, Body 2.82x2.82mm, Pitch 0.4mm, NSC Recommended)
pins: A1 IRQ (out), A2 LDO (out), A3 VIN (in), A4 FB_B1 (in), A5 VIN_B1 (in), A6 SW_B1 (io), A7 GND_B1 (power), B1 VIN_IO (in), B2 GND (power), B3 GND (power), B4 FB_B1 (in), B5 VIN_B1 (in), B6 SW_B1 (io), B7 GND_B1 (power), C1 SPI_CLK (in), C7 VCOMP (in), D1 SPI_DI (in), D7 GND (power), E1 SPI_DO (out), E7 STANDBY (in), F1 SPI_CS (in), F2 SW_B2 (io), F3 FB_B2 (in), F4 HL_B3 (in), F5 FB_B3 (in), F6 SW_B3 (io), F7 RESET (in), G1 GND_B2 (power), G2 SW_B2 (io), G3 VIN_B2 (in), G4 HL_B2 (in), G5 VIN_B3 (in), G6 SW_B3 (io), G7 GND_B3 (power)

## LM10506TME/NOPB
designator U?
Triple Buck + LDO Power Management Unit, 34-pin Micro SMD; PartNumber: LM10506TME/NOPB; Manufacturer: National Semiconductor; PackageTopMarking: XYTT*I V037; PowerWise: N; CompType: Switcher; High-Reliability: Y; DatasheetVersion: Sep-2011; PackageVersion: revB, Apr-2011; PackageReference: TME34AAA; PackageDescription: Thin Micro SMD, 34 Bump, 2.81 x 2.81 x 0.60 mm Body, 0.4mm Pitch; RoHS: Y; PinCount: 34; ComponentLink1Description: Manufacturer URL; ComponentLink1URL: http://www.national.com/; ComponentLink2Description: LM10506 Datasheet; ComponentLink2URL: http://www.national.com/ds/LM/LM10506.pdf; ComponentLink3Description: LM10506 Web Page; ComponentLink3URL: http://www.national.com/pf/LM/LM10506.html; ComponentLink4Description: TME34AAA Package Page; ComponentLink4URL: http://www.national.com/packaging/folders/tme34aaa.html
footprint TME34AAA (Micro SMD, 34-Leads, Body 2.82x2.82mm, Pitch 0.4mm, NSC Recommended)
pins: A1 IRQ (out), A2 LDO (out), A3 VIN (in), A4 FB_B1 (in), A5 VIN_B1 (in), A6 SW_B1 (io), A7 GND_B1 (power), B1 VIN_IO (in), B2 GND (power), B3 GND (power), B4 FB_B1 (in), B5 VIN_B1 (in), B6 SW_B1 (io), B7 GND_B1 (power), C1 SPI_CLK (in), C7 VCOMP (in), D1 SPI_DI (in), D7 GND (power), E1 SPI_DO (out), E7 STANDBY (in), F1 SPI_CS (in), F2 SW_B2 (io), F3 FB_B2 (in), F4 HL_B3 (in), F5 FB_B3 (in), F6 SW_B3 (io), F7 RESET (in), G1 GND_B2 (power), G2 SW_B2 (io), G3 VIN_B2 (in), G4 HL_B2 (in), G5 VIN_B3 (in), G6 SW_B3 (io), G7 GND_B3 (power)

## LM10506TMX-A/NOPB
designator U?
Triple Buck + LDO Power Management Unit, 34-pin Micro SMD, 3000 Reel; PartNumber: LM10506TMX-A/NOPB; Manufacturer: National Semiconductor; PackageTopMarking: XYTT*I V045; PowerWise: N; CompType: Switcher; High-Reliability: Y; DatasheetVersion: Sep-2011; PackageVersion: revB, Apr-2011; PackageReference: TME34AAA; PackageDescription: Thin Micro SMD, 34 Bump, 2.81 x 2.81 x 0.60 mm Body, 0.4mm Pitch; RoHS: Y; PinCount: 34; ComponentLink1Description: Manufacturer URL; ComponentLink1URL: http://www.national.com/; ComponentLink2Description: LM10506 Datasheet; ComponentLink2URL: http://www.national.com/ds/LM/LM10506.pdf; ComponentLink3Description: LM10506 Web Page; ComponentLink3URL: http://www.national.com/pf/LM/LM10506.html; ComponentLink4Description: TME34AAA Package Page; ComponentLink4URL: http://www.national.com/packaging/folders/tme34aaa.html
footprint TME34AAA (Micro SMD, 34-Leads, Body 2.82x2.82mm, Pitch 0.4mm, NSC Recommended)
pins: A1 IRQ (out), A2 LDO (out), A3 VIN (in), A4 FB_B1 (in), A5 VIN_B1 (in), A6 SW_B1 (io), A7 GND_B1 (power), B1 VIN_IO (in), B2 GND (power), B3 GND (power), B4 FB_B1 (in), B5 VIN_B1 (in), B6 SW_B1 (io), B7 GND_B1 (power), C1 SPI_CLK (in), C7 VCOMP (in), D1 SPI_DI (in), D7 GND (power), E1 SPI_DO (out), E7 STANDBY (in), F1 SPI_CS (in), F2 SW_B2 (io), F3 FB_B2 (in), F4 HL_B3 (in), F5 FB_B3 (in), F6 SW_B3 (io), F7 RESET (in), G1 GND_B2 (power), G2 SW_B2 (io), G3 VIN_B2 (in), G4 HL_B2 (in), G5 VIN_B3 (in), G6 SW_B3 (io), G7 GND_B3 (power)

## LM10506TMX/NOPB
designator U?
Triple Buck + LDO Power Management Unit, 34-pin Micro SMD; PartNumber: LM10506TMX/NOPB; Manufacturer: National Semiconductor; PackageTopMarking: XYTT*I V037; PowerWise: N; CompType: Switcher; High-Reliability: Y; DatasheetVersion: Sep-2011; PackageVersion: revB, Apr-2011; PackageReference: TME34AAA; PackageDescription: Thin Micro SMD, 34 Bump, 2.81 x 2.81 x 0.60 mm Body, 0.4mm Pitch; RoHS: Y; PinCount: 34; ComponentLink1Description: Manufacturer URL; ComponentLink1URL: http://www.national.com/; ComponentLink2Description: LM10506 Datasheet; ComponentLink2URL: http://www.national.com/ds/LM/LM10506.pdf; ComponentLink3Description: LM10506 Web Page; ComponentLink3URL: http://www.national.com/pf/LM/LM10506.html; ComponentLink4Description: TME34AAA Package Page; ComponentLink4URL: http://www.national.com/packaging/folders/tme34aaa.html
footprint TME34AAA (Micro SMD, 34-Leads, Body 2.82x2.82mm, Pitch 0.4mm, NSC Recommended)
pins: A1 IRQ (out), A2 LDO (out), A3 VIN (in), A4 FB_B1 (in), A5 VIN_B1 (in), A6 SW_B1 (io), A7 GND_B1 (power), B1 VIN_IO (in), B2 GND (power), B3 GND (power), B4 FB_B1 (in), B5 VIN_B1 (in), B6 SW_B1 (io), B7 GND_B1 (power), C1 SPI_CLK (in), C7 VCOMP (in), D1 SPI_DI (in), D7 GND (power), E1 SPI_DO (out), E7 STANDBY (in), F1 SPI_CS (in), F2 SW_B2 (io), F3 FB_B2 (in), F4 HL_B3 (in), F5 FB_B3 (in), F6 SW_B3 (io), F7 RESET (in), G1 GND_B2 (power), G2 SW_B2 (io), G3 VIN_B2 (in), G4 HL_B2 (in), G5 VIN_B3 (in), G6 SW_B3 (io), G7 GND_B3 (power)

## LM10520MH/NOPB
designator U?
Single-Phase Buck Controller for AVS Systems, 28-pin TSSOP-EP, 48 Rail; PartNumber: LM10520MH/NOPB; Manufacturer: National Semiconductor; PackageTopMarking: NSUZXYTTE#*LM10520; PowerWise: N; CompType: Switcher; High-Reliability: Y; DatasheetVersion: Nov-2010; PackageVersion: revA, Oct-2009; PackageReference: MXA28B; PackageDescription: 28-Lead TSSOP, JEDEC, 9.7 x 4.4 x 0.9 mm Body, 0.65 mm Pitch, Exposed Pad; RoHS: Y; PinCount: 28; Code_JEDEC: MO-153-AET; ComponentLink1Description: Manufacturer URL; ComponentLink1URL: http://www.national.com/; ComponentLink2Description: LM10520 Datasheet; ComponentLink2URL: http://www.national.com/ds/LM/LM10520.pdf; ComponentLink3Description: LM10520 Web Page; ComponentLink3URL: http://www.national.com/pf/LM/LM10520.html; ComponentLink4Description: MXA28B Package Page; ComponentLink4URL: http://www.national.com/packaging/folders/mxa28b.html
footprint MXA28B_N (TSOP, 28-Leads, Body 9.7x4.4mm, Pitch 0.65mm, Thermal Pad, IPC Medium Density)
footprint MXA28B_L (TSOP, 28-Leads, Body 9.7x4.4mm, Pitch 0.65mm, Thermal Pad, IPC High Density)
footprint MXA28B_M (TSOP, 28-Leads, Body 9.7x4.4mm, Pitch 0.65mm, Thermal Pad, IPC Low Density)
pins: 1 BOOT, 2 LG (oc), 3 PGND (power), 4 VCC (power), 5 PWGD (oc), 6 ISEN (in), 7 VIN (in), 8 NC, 9 VCC5 (power), 10 FLT_N (io), 11 VDD (power), 12 ADDR, 13 ENBIAS (in), 14 CONTROL (in), 15 IOUT1 (out), 16 RESET_N (in), 17 CNTL_EN (out), 18 VPWI (power), 19 SPWI (io), 20 SCLK (out), 21 ON/OFF (in), 22 EAO (out), 23 SS/TRACK, 24 FB, 25 FREQ/SYNC, 26 SD (in), 27 PGND (power), 28 HG (oc), 29 DAP (power)

## LM10520MHE/NOPB
designator U?
Single-Phase Buck Controller for AVS Systems, 28-pin TSSOP-EP, 250 Reel; PartNumber: LM10520MHE/NOPB; Manufacturer: National Semiconductor; PackageTopMarking: NSUZXYTTE#*LM10520; PowerWise: N; CompType: Switcher; High-Reliability: Y; DatasheetVersion: Nov-2010; PackageVersion: revA, Oct-2009; PackageReference: MXA28B; PackageDescription: 28-Lead TSSOP, JEDEC, 9.7 x 4.4 x 0.9 mm Body, 0.65 mm Pitch, Exposed Pad; RoHS: Y; PinCount: 28; Code_JEDEC: MO-153-AET; ComponentLink1Description: Manufacturer URL; ComponentLink1URL: http://www.national.com/; ComponentLink2Description: LM10520 Datasheet; ComponentLink2URL: http://www.national.com/ds/LM/LM10520.pdf; ComponentLink3Description: LM10520 Web Page; ComponentLink3URL: http://www.national.com/pf/LM/LM10520.html; ComponentLink4Description: MXA28B Package Page; ComponentLink4URL: http://www.national.com/packaging/folders/mxa28b.html
footprint MXA28B_N (TSOP, 28-Leads, Body 9.7x4.4mm, Pitch 0.65mm, Thermal Pad, IPC Medium Density)
footprint MXA28B_L (TSOP, 28-Leads, Body 9.7x4.4mm, Pitch 0.65mm, Thermal Pad, IPC High Density)
footprint MXA28B_M (TSOP, 28-Leads, Body 9.7x4.4mm, Pitch 0.65mm, Thermal Pad, IPC Low Density)
pins: 1 BOOT, 2 LG (oc), 3 PGND (power), 4 VCC (power), 5 PWGD (oc), 6 ISEN (in), 7 VIN (in), 8 NC, 9 VCC5 (power), 10 FLT_N (io), 11 VDD (power), 12 ADDR, 13 ENBIAS (in), 14 CONTROL (in), 15 IOUT1 (out), 16 RESET_N (in), 17 CNTL_EN (out), 18 VPWI (power), 19 SPWI (io), 20 SCLK (out), 21 ON/OFF (in), 22 EAO (out), 23 SS/TRACK, 24 FB, 25 FREQ/SYNC, 26 SD (in), 27 PGND (power), 28 HG (oc), 29 DAP (power)

## LM10520MHX/NOPB
designator U?
Single-Phase Buck Controller for AVS Systems, 28-pin TSSOP-EP, 2500 Reel; PartNumber: LM10520MHX/NOPB; Manufacturer: National Semiconductor; PackageTopMarking: NSUZXYTTE#*LM10520; PowerWise: N; CompType: Switcher; High-Reliability: Y; DatasheetVersion: Nov-2010; PackageVersion: revA, Oct-2009; PackageReference: MXA28B; PackageDescription: 28-Lead TSSOP, JEDEC, 9.7 x 4.4 x 0.9 mm Body, 0.65 mm Pitch, Exposed Pad; RoHS: Y; PinCount: 28; Code_JEDEC: MO-153-AET; ComponentLink1Description: Manufacturer URL; ComponentLink1URL: http://www.national.com/; ComponentLink2Description: LM10520 Datasheet; ComponentLink2URL: http://www.national.com/ds/LM/LM10520.pdf; ComponentLink3Description: LM10520 Web Page; ComponentLink3URL: http://www.national.com/pf/LM/LM10520.html; ComponentLink4Description: MXA28B Package Page; ComponentLink4URL: http://www.national.com/packaging/folders/mxa28b.html
footprint MXA28B_N (TSOP, 28-Leads, Body 9.7x4.4mm, Pitch 0.65mm, Thermal Pad, IPC Medium Density)
footprint MXA28B_L (TSOP, 28-Leads, Body 9.7x4.4mm, Pitch 0.65mm, Thermal Pad, IPC High Density)
footprint MXA28B_M (TSOP, 28-Leads, Body 9.7x4.4mm, Pitch 0.65mm, Thermal Pad, IPC Low Density)
pins: 1 BOOT, 2 LG (oc), 3 PGND (power), 4 VCC (power), 5 PWGD (oc), 6 ISEN (in), 7 VIN (in), 8 NC, 9 VCC5 (power), 10 FLT_N (io), 11 VDD (power), 12 ADDR, 13 ENBIAS (in), 14 CONTROL (in), 15 IOUT1 (out), 16 RESET_N (in), 17 CNTL_EN (out), 18 VPWI (power), 19 SPWI (io), 20 SCLK (out), 21 ON/OFF (in), 22 EAO (out), 23 SS/TRACK, 24 FB, 25 FREQ/SYNC, 26 SD (in), 27 PGND (power), 28 HG (oc), 29 DAP (power)

## LM20123MH
designator U?
3A, 1.5MHz PowerWise Synchronous Buck Regulator, 16-pin TSSOP-EP; PartNumber: LM20123MH; Manufacturer: National Semiconductor; PackageTopMarking: NSUZXYTT*20123*MH; PowerWise: Y; CompType: Switcher; DatasheetVersion: Jan-2008; PackageVersion: revA, Apr-2003; PackageReference: MXA16A; PackageDescription: Molded TSSOP, Jedec, Exposed Pad, 5.0 x 4.4 x 0.9mm Body,16 Lead, 0.65mm Pitch; RoHS: Y; PinCount: 16; High-Reliability: Y; Code_JEDEC: MO-153-ABT; ComponentLink1Description: Manufacturer URL; ComponentLink1URL: http://www.national.com/; ComponentLink2Description: LM20123 Datasheet; ComponentLink2URL: http://www.national.com/ds/LM/LM20123.pdf; ComponentLink3Description: LM20123 Web Page; ComponentLink3URL: http://www.national.com/pf/LM/LM20123.html; ComponentLink4Description: MXA16A Package Page; ComponentLink4URL: http://www.national.com/packaging/folders/mxa16a.html
footprint MXA16A_N (TSOP, 16-Leads, Body 5x4.4mm, Pitch 0.65mm, Thermal Pad, IPC Medium Density)
footprint MXA16A_L (TSOP, 16-Leads, Body 5x4.4mm, Pitch 0.65mm, Thermal Pad, IPC High Density)
footprint MXA16A_M (TSOP, 16-Leads, Body 5x4.4mm, Pitch 0.65mm, Thermal Pad, IPC Low Density)
pins: 1 SS/TRK, 2 FB (in), 3 PGOOD (oc), 4 COMP, 5 NC, 6 PVIN (power), 7 PVIN (power), 8 SW (power), 9 SW (power), 10 PGND (power), 11 PGND (power), 12 EN (in), 13 VCC (power), 14 AVIN (power), 15 AGND (power), 16 NC, 17 DAP (power)

## LM20123MH/NOPB
designator U?
3A, 1.5MHz PowerWise Synchronous Buck Regulator, 16-pin TSSOP-EP, Pb-Free; PartNumber: LM20123MH/NOPB; Manufacturer: National Semiconductor; PackageTopMarking: NSUZXYTT*20123*MH; PowerWise: Y; CompType: Switcher; DatasheetVersion: Jan-2008; PackageVersion: revA, Apr-2003; PackageReference: MXA16A; PackageDescription: Molded TSSOP, Jedec, Exposed Pad, 5.0 x 4.4 x 0.9mm Body,16 Lead, 0.65mm Pitch; RoHS: Y; PinCount: 16; High-Reliability: Y; Code_JEDEC: MO-153-ABT; ComponentLink1Description: Manufacturer URL; ComponentLink1URL: http://www.national.com/; ComponentLink2Description: LM20123 Datasheet; ComponentLink2URL: http://www.national.com/ds/LM/LM20123.pdf; ComponentLink3Description: LM20123 Web Page; ComponentLink3URL: http://www.national.com/pf/LM/LM20123.html; ComponentLink4Description: MXA16A Package Page; ComponentLink4URL: http://www.national.com/packaging/folders/mxa16a.html
footprint MXA16A_N (TSOP, 16-Leads, Body 5x4.4mm, Pitch 0.65mm, Thermal Pad, IPC Medium Density)
footprint MXA16A_L (TSOP, 16-Leads, Body 5x4.4mm, Pitch 0.65mm, Thermal Pad, IPC High Density)
footprint MXA16A_M (TSOP, 16-Leads, Body 5x4.4mm, Pitch 0.65mm, Thermal Pad, IPC Low Density)
pins: 1 SS/TRK, 2 FB (in), 3 PGOOD (oc), 4 COMP, 5 NC, 6 PVIN (power), 7 PVIN (power), 8 SW (power), 9 SW (power), 10 PGND (power), 11 PGND (power), 12 EN (in), 13 VCC (power), 14 AVIN (power), 15 AGND (power), 16 NC, 17 DAP (power)

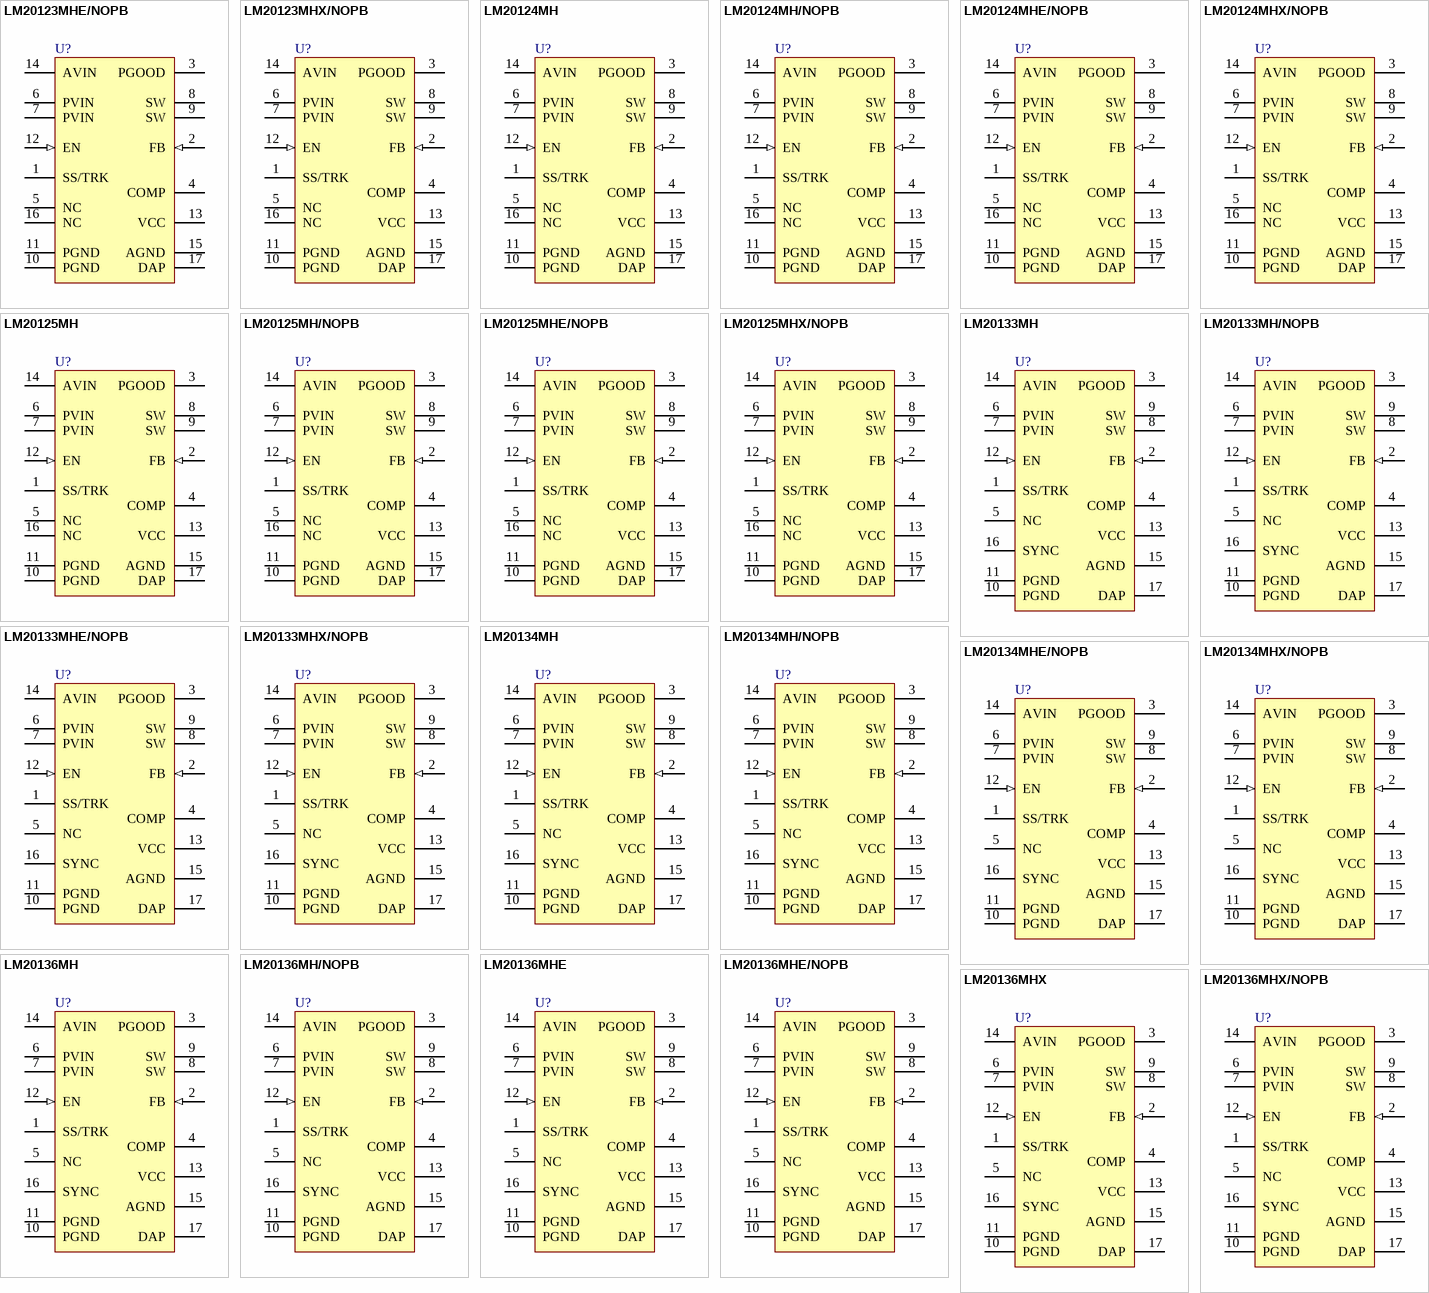
[diagram p48: symbols LM20123MHE/NOPB to LM20136MHX/NOPB]

## LM20123MHE/NOPB
designator U?
3A, 1.5MHz PowerWise Synchronous Buck Regulator, 16-pin TSSOP-EP, Pb-Free; PartNumber: LM20123MHE/NOPB; Manufacturer: National Semiconductor; PackageTopMarking: NSUZXYTT*20123*MH; PowerWise: Y; CompType: Switcher; DatasheetVersion: Jan-2008; PackageVersion: revA, Apr-2003; PackageReference: MXA16A; PackageDescription: Molded TSSOP, Jedec, Exposed Pad, 5.0 x 4.4 x 0.9mm Body,16 Lead, 0.65mm Pitch; RoHS: Y; PinCount: 16; High-Reliability: Y; Code_JEDEC: MO-153-ABT; ComponentLink1Description: Manufacturer URL; ComponentLink1URL: http://www.national.com/; ComponentLink2Description: LM20123 Datasheet; ComponentLink2URL: http://www.national.com/ds/LM/LM20123.pdf; ComponentLink3Description: LM20123 Web Page; ComponentLink3URL: http://www.national.com/pf/LM/LM20123.html; ComponentLink4Description: MXA16A Package Page; ComponentLink4URL: http://www.national.com/packaging/folders/mxa16a.html
footprint MXA16A_N (TSOP, 16-Leads, Body 5x4.4mm, Pitch 0.65mm, Thermal Pad, IPC Medium Density)
footprint MXA16A_L (TSOP, 16-Leads, Body 5x4.4mm, Pitch 0.65mm, Thermal Pad, IPC High Density)
footprint MXA16A_M (TSOP, 16-Leads, Body 5x4.4mm, Pitch 0.65mm, Thermal Pad, IPC Low Density)
pins: 1 SS/TRK, 2 FB (in), 3 PGOOD (oc), 4 COMP, 5 NC, 6 PVIN (power), 7 PVIN (power), 8 SW (power), 9 SW (power), 10 PGND (power), 11 PGND (power), 12 EN (in), 13 VCC (power), 14 AVIN (power), 15 AGND (power), 16 NC, 17 DAP (power)

## LM20123MHX/NOPB
designator U?
3A, 1.5MHz PowerWise Synchronous Buck Regulator, 16-pin TSSOP-EP, Pb-Free; PartNumber: LM20123MHX/NOPB; Manufacturer: National Semiconductor; PackageTopMarking: NSUZXYTT*20123*MH; PowerWise: Y; CompType: Switcher; DatasheetVersion: Jan-2008; PackageVersion: revA, Apr-2003; PackageReference: MXA16A; PackageDescription: Molded TSSOP, Jedec, Exposed Pad, 5.0 x 4.4 x 0.9mm Body,16 Lead, 0.65mm Pitch; RoHS: Y; PinCount: 16; High-Reliability: Y; Code_JEDEC: MO-153-ABT; ComponentLink1Description: Manufacturer URL; ComponentLink1URL: http://www.national.com/; ComponentLink2Description: LM20123 Datasheet; ComponentLink2URL: http://www.national.com/ds/LM/LM20123.pdf; ComponentLink3Description: LM20123 Web Page; ComponentLink3URL: http://www.national.com/pf/LM/LM20123.html; ComponentLink4Description: MXA16A Package Page; ComponentLink4URL: http://www.national.com/packaging/folders/mxa16a.html
footprint MXA16A_N (TSOP, 16-Leads, Body 5x4.4mm, Pitch 0.65mm, Thermal Pad, IPC Medium Density)
footprint MXA16A_L (TSOP, 16-Leads, Body 5x4.4mm, Pitch 0.65mm, Thermal Pad, IPC High Density)
footprint MXA16A_M (TSOP, 16-Leads, Body 5x4.4mm, Pitch 0.65mm, Thermal Pad, IPC Low Density)
pins: 1 SS/TRK, 2 FB (in), 3 PGOOD (oc), 4 COMP, 5 NC, 6 PVIN (power), 7 PVIN (power), 8 SW (power), 9 SW (power), 10 PGND (power), 11 PGND (power), 12 EN (in), 13 VCC (power), 14 AVIN (power), 15 AGND (power), 16 NC, 17 DAP (power)

## LM20124MH
designator U?
4A, 1MHz PowerWise Synchronous Buck Regulator, 16-pin TSSOP-EP; PartNumber: LM20124MH; Manufacturer: National Semiconductor; PackageTopMarking: NSUZXYTT*20124*MH; PowerWise: Y; CompType: Switcher; DatasheetVersion: Jan-2008; PackageVersion: revA, Apr-2003; PackageReference: MXA16A; PackageDescription: Molded TSSOP, Jedec, Exposed Pad, 5.0 x 4.4 x 0.9mm Body,16 Lead, 0.65mm Pitch; RoHS: Y; PinCount: 16; High-Reliability: Y; Code_JEDEC: MO-153-ABT; ComponentLink1Description: Manufacturer URL; ComponentLink1URL: http://www.national.com/; ComponentLink2Description: LM20124 Datasheet; ComponentLink2URL: http://www.national.com/ds/LM/LM20124.pdf; ComponentLink3Description: LM20124 Web Page; ComponentLink3URL: http://www.national.com/pf/LM/LM20124.html; ComponentLink4Description: MXA16A Package Page; ComponentLink4URL: http://www.national.com/packaging/folders/mxa16a.html
footprint MXA16A_N (TSOP, 16-Leads, Body 5x4.4mm, Pitch 0.65mm, Thermal Pad, IPC Medium Density)
footprint MXA16A_L (TSOP, 16-Leads, Body 5x4.4mm, Pitch 0.65mm, Thermal Pad, IPC High Density)
footprint MXA16A_M (TSOP, 16-Leads, Body 5x4.4mm, Pitch 0.65mm, Thermal Pad, IPC Low Density)
pins: 1 SS/TRK, 2 FB (in), 3 PGOOD (oc), 4 COMP, 5 NC, 6 PVIN (power), 7 PVIN (power), 8 SW (power), 9 SW (power), 10 PGND (power), 11 PGND (power), 12 EN (in), 13 VCC (power), 14 AVIN (power), 15 AGND (power), 16 NC, 17 DAP (power)

## LM20124MH/NOPB
designator U?
4A, 1MHz PowerWise Synchronous Buck Regulator, 16-pin TSSOP-EP, Pb-Free; PartNumber: LM20124MH/NOPB; Manufacturer: National Semiconductor; PackageTopMarking: NSUZXYTT*20124*MH; PowerWise: Y; CompType: Switcher; DatasheetVersion: Jan-2008; PackageVersion: revA, Apr-2003; PackageReference: MXA16A; PackageDescription: Molded TSSOP, Jedec, Exposed Pad, 5.0 x 4.4 x 0.9mm Body,16 Lead, 0.65mm Pitch; RoHS: Y; PinCount: 16; High-Reliability: Y; Code_JEDEC: MO-153-ABT; ComponentLink1Description: Manufacturer URL; ComponentLink1URL: http://www.national.com/; ComponentLink2Description: LM20124 Datasheet; ComponentLink2URL: http://www.national.com/ds/LM/LM20124.pdf; ComponentLink3Description: LM20124 Web Page; ComponentLink3URL: http://www.national.com/pf/LM/LM20124.html; ComponentLink4Description: MXA16A Package Page; ComponentLink4URL: http://www.national.com/packaging/folders/mxa16a.html
footprint MXA16A_N (TSOP, 16-Leads, Body 5x4.4mm, Pitch 0.65mm, Thermal Pad, IPC Medium Density)
footprint MXA16A_L (TSOP, 16-Leads, Body 5x4.4mm, Pitch 0.65mm, Thermal Pad, IPC High Density)
footprint MXA16A_M (TSOP, 16-Leads, Body 5x4.4mm, Pitch 0.65mm, Thermal Pad, IPC Low Density)
pins: 1 SS/TRK, 2 FB (in), 3 PGOOD (oc), 4 COMP, 5 NC, 6 PVIN (power), 7 PVIN (power), 8 SW (power), 9 SW (power), 10 PGND (power), 11 PGND (power), 12 EN (in), 13 VCC (power), 14 AVIN (power), 15 AGND (power), 16 NC, 17 DAP (power)